# Altium schematic symbol library 1.3   - 电源类芯片.SchLib: 70 symbols
Pins are listed as number, name and electrical type; pins without a type are passive.

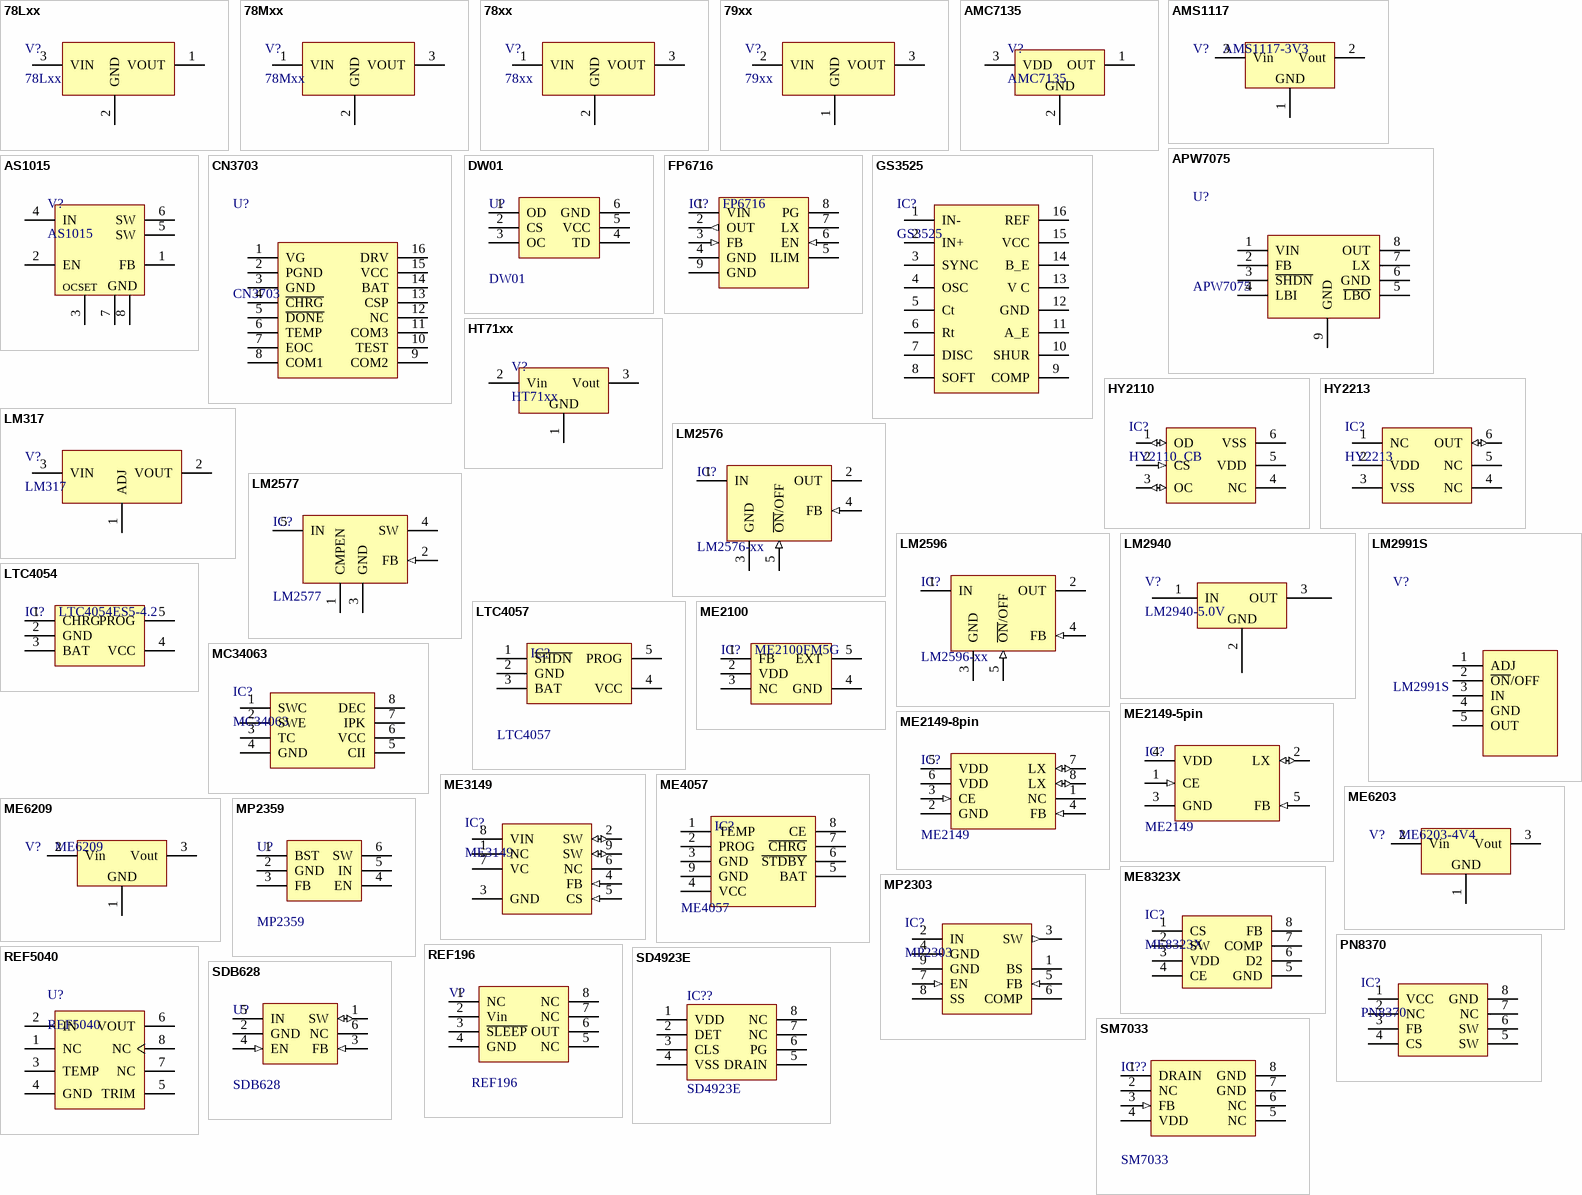
[diagram p0: symbols 78Lxx to SM7033]

## 78Lxx
designator V?
线性稳压芯片; BOM名称: 线性稳压芯片
footprint SOT89_N (4.6x4.3x1.6mm(长宽高))
footprint SOT89_L (4.6x4.3x1.6mm(长宽高))
footprint SOT89_M (4.6x4.3x1.6mm(长宽高))
pins: 1 VOUT, 2 GND, 3 VIN

## 78Mxx
designator V?
线性稳压芯片; BOM名称: 线性稳压芯片
footprint TO252 (252晶体管)
pins: 1 VIN, 2 GND, 3 VOUT

## 78xx
designator V?
线性稳压芯片; BOM名称: 线性稳压芯片
footprint TO220A (220，3脚晶体管)
footprint TO220B (220，3脚晶体管)
footprint TO220C (220，3脚晶体管)
pins: 1 VIN, 2 GND, 3 VOUT

## 79xx
designator V?
线性稳压芯片; BOM名称: 线性稳压芯片
footprint TO252 (252晶体管)
footprint TO220A (220，3脚晶体管)
footprint TO220B (220，3脚晶体管)
footprint TO220C (220，3脚晶体管)
pins: 1 GND, 2 VIN, 3 VOUT

## AMC7135
designator V?
大功率LED恒流芯片; BOM名称: 大功率LED恒流芯片
footprint SOT89_L (4.6x4.3x1.6mm(长宽高))
footprint SOT89_N (4.6x4.3x1.6mm(长宽高))
footprint SOT89_M (4.6x4.3x1.6mm(长宽高))
footprint TO252 (252晶体管)
pins: 1 OUT, 2 GND, 3 VDD

## AMS1117
designator V?, comment AMS1117-3V3
三端稳压芯片; BOM名称: 稳压芯片
footprint SOT223_L (6.4x7x1.6mm(长宽高))
footprint SOT223_M (6.4x7x1.6mm(长宽高))
footprint SOT223_N (6.4x7x1.6mm(长宽高))
footprint SOT89_L (4.6x4.3x1.6mm(长宽高))
footprint SOT89_N (4.6x4.3x1.6mm(长宽高))
footprint SOT89_M (4.6x4.3x1.6mm(长宽高))
pins: 1 GND, 2 Vout, 3 Vin

## APW7075
designator U?
电压转换器; BOM名称: 电压转换器
footprint ESOP8_L (5*6*1.8mm（长宽高）)
footprint ESOP8_N (5*6*1.8mm（长宽高）)
footprint ESOP8_M (5*6*1.8mm（长宽高）)
pins: 1 VIN, 2 FB, 3 ~{SHDN}, 4 LBI, 5 ~{LBO}, 6 GND, 7 LX, 8 OUT, 9 GND

## AS1015
designator V?
可调升压芯片; BOM名称: 可调升压芯片
footprint SOP8_N (5*6*1.8mm（长宽高）)
footprint SOP8_L (5*6*1.8mm（长宽高）)
footprint SOP8_M (5*6*1.8mm（长宽高）)
pins: 1 FB (power), 2 EN (power), 3 OCSET (power), 4 IN (power), 5 SW (power), 6 SW (power), 7 GND (power), 8 GND (power)

## CN3703
designator U?
三节锂电池充电芯片; BOM名称: 三节锂电池充电芯片
footprint TSSOP16_N (5*6.4*1mm（长宽高）)
footprint TSSOP16_L (5*6.4*1mm（长宽高）)
footprint TSSOP16_M (5*6.4*1mm（长宽高）)
pins: 1 VG, 2 PGND, 3 GND, 4 ~{CHRG}, 5 ~{DONE}, 6 TEMP, 7 EOC, 8 COM1, 9 COM2, 10 TEST, 11 COM3, 12 NC, 13 CSP, 14 BAT, 15 VCC, 16 DRV

## DW01
designator U?
锂电池过流保护IC; BOM名称: 过流保护IC
footprint SOT23-6L (3x1.6x1.1mm(长宽高))
footprint SOT23-6N (3x1.6x1.1mm(长宽高))
footprint SOT23-6M (3x1.6x1.1mm(长宽高))
pins: 1 OD, 2 CS, 3 OC, 4 TD, 5 VCC, 6 GND

## FP6716
designator IC?
可调升压芯片; 描述: IN:2.5~25V/8A,550MHz; BOM名称: 可调升压芯片
footprint ESOP8_N (5*6*1.8mm（长宽高）)
footprint ESOP8_L (5*6*1.8mm（长宽高）)
footprint ESOP8_M (5*6*1.8mm（长宽高）)
pins: 1 VIN (power), 2 OUT (out), 3 FB (in), 4 GND (power), 5 ILIM, 6 EN (in), 7 LX, 8 PG, 9 GND (power)

## GS3525
designator IC?
开关电源管理IC; BOM名称: 电源管理IC
footprint DIP16-300 (19.3*7.6*3.8(长宽高）)
footprint SOP16_L (10.3*6.2*1.8mm（长宽高）)
footprint SOP16_N (10.3*6.2*1.8mm（长宽高）)
footprint SOP16_M (10.3*6.2*1.8mm（长宽高）)
pins: 1 IN-, 2 IN+, 3 SYNC, 4 OSC, 5 Ct, 6 Rt, 7 DISC, 8 SOFT, 9 COMP, 10 SHUR, 11 A_E, 12 GND, 13 V C, 14 B_E, 15 VCC, 16 REF

## HT71xx
designator V?
LDO线性稳压芯片; BOM名称: LDO线性稳压芯片
footprint SOT89_L (4.6x4.3x1.6mm(长宽高))
footprint SOT89_N (4.6x4.3x1.6mm(长宽高))
footprint SOT89_M (4.6x4.3x1.6mm(长宽高))
footprint TO92A (92晶体管)
footprint TO92B (92晶体管)
pins: 1 GND, 2 Vin, 3 Vout

## HY2110
designator IC?, comment HY2110_CB
锂电池保护 IC; BOM名称: 锂电池保护 IC; 描述: 锂电池保护 IC
footprint SOT23-6N (3x1.6x1.1mm(长宽高))
footprint SOT23-6L (3x1.6x1.1mm(长宽高))
footprint SOT23-6M (3x1.6x1.1mm(长宽高))
pins: 1 OD (io), 2 CS (in), 3 OC (io), 4 NC, 5 VDD (power), 6 VSS (power)

## HY2213
designator IC?
电池充电平衡 IC; BOM名称: 电池充电平衡 IC; 描述: 电池充电平衡 IC
footprint SOT23-6N (3x1.6x1.1mm(长宽高))
footprint SOT23-6L (3x1.6x1.1mm(长宽高))
footprint SOT23-6M (3x1.6x1.1mm(长宽高))
pins: 1 NC, 2 VDD (power), 3 VSS (power), 4 NC, 5 NC, 6 OUT (io)

## LM317
designator V?
可调线性稳压芯片; BOM名称: 可调线性稳压芯片
footprint TO252 (252晶体管)
footprint TO220A (220，3脚晶体管)
footprint TO220B (220，3脚晶体管)
footprint TO220C (220，3脚晶体管)
pins: 1 ADJ, 2 VOUT, 3 VIN

## LM2576
designator IC?, comment LM2576-xx
DC降压芯片; BOM名称: DC降压芯片
footprint TO220-5A (220，5脚晶体管)
footprint TO220-5B (220，5脚晶体管)
footprint TO220-5C (220，5脚晶体管)
footprint TO263-5A (263，5脚晶体管)
footprint TO263-5B (263，5脚晶体管)
footprint TO220-5D (220，5脚晶体管)
pins: 1 IN (power), 2 OUT (power), 3 GND (power), 4 FB (in), 5 ~{ON}/OFF (in)

## LM2577
designator IC?
DC升压芯片; BOM名称: DC升压芯片
footprint TO220-5A (220，5脚晶体管)
footprint TO220-5B (220，5脚晶体管)
footprint TO220-5C (220，5脚晶体管)
footprint TO263-5A (263，5脚晶体管)
footprint TO263-5B (263，5脚晶体管)
footprint TO220-5D (220，5脚晶体管)
pins: 1 CMPEN, 2 FB (in), 3 GND (power), 4 SW (power), 5 IN (power)

## LM2596
designator IC?, comment LM2596-xx
DC降压芯片; BOM名称: DC稳压芯片
footprint TO220-5A (220，5脚晶体管)
footprint TO220-5B (220，5脚晶体管)
footprint TO220-5C (220，5脚晶体管)
footprint TO263-5A (263，5脚晶体管)
footprint TO263-5B (263，5脚晶体管)
footprint TO220-5D (220，5脚晶体管)
pins: 1 IN (power), 2 OUT (power), 3 GND (power), 4 FB (in), 5 ~{ON}/OFF (in)

## LM2940
designator V?, comment LM2940-5.0V
5V稳压芯片; BOM名称: 5V稳压芯片
footprint TO220A (220，3脚晶体管)
footprint TO220B (220，3脚晶体管)
pins: 1 IN (power), 2 GND (power), 3 OUT (power)

## LM2991S
designator V?
可调稳压芯片; BOM名称: 可调稳压芯片
footprint TO220-5A (220，5脚晶体管)
footprint TO220-5B (220，5脚晶体管)
footprint TO220-5C (220，5脚晶体管)
footprint TO263-5A (263，5脚晶体管)
footprint TO263-5B (263，5脚晶体管)
footprint TO220-5D (220，5脚晶体管)
pins: 1 ADJ, 2 ~{ON}/OFF, 3 IN, 4 GND, 5 OUT

## LTC4054
designator IC?, comment LTC4054ES5-4.2
锂电池充电芯片; BOM名称: 锂电池充电芯片
footprint SOT23-5N (3x1.6x1.1mm(长宽高))
footprint SOT23-5L (3x1.6x1.1mm(长宽高))
footprint SOT23-5M (3x1.6x1.1mm(长宽高))
pins: 1 CHRG, 2 GND, 3 BAT, 4 VCC, 5 PROG

## LTC4057
designator IC?
锂电池充电管理IC; BOM名称: 充电管理IC
footprint SOT23-5N (3x1.6x1.1mm(长宽高))
footprint SOT23-5L (3x1.6x1.1mm(长宽高))
footprint SOT23-5M (3x1.6x1.1mm(长宽高))
pins: 1 ~{SHDN}, 2 GND, 3 BAT, 4 VCC, 5 PROG

## MC34063
designator IC?
DC升降压芯片; BOM名称: DC升降压芯片
footprint SOP8_L (5*6*1.8mm（长宽高）)
footprint SOP8_N (5*6*1.8mm（长宽高）)
footprint SOP8_M (5*6*1.8mm（长宽高）)
footprint DIP8-300 (9.4*7.6*3.8(长宽高）)
pins: 1 SWC, 2 SWE, 3 TC, 4 GND, 5 CII, 6 VCC, 7 IPK, 8 DEC

## ME2100
designator IC?, comment ME2100FM5G
可调升压芯片; BOM名称: 可调升压芯片
footprint SOT23-5N (3x1.6x1.1mm(长宽高))
footprint SOT23-5L (3x1.6x1.1mm(长宽高))
footprint SOT23-5M (3x1.6x1.1mm(长宽高))
pins: 1 FB, 2 VDD, 3 NC, 4 GND, 5 EXT

## ME2149-5pin
designator IC?, comment ME2149
DC升压芯片; BOM名称: DC升压芯片
footprint SOT23-5N (3x1.6x1.1mm(长宽高))
footprint SOT23-5L (3x1.6x1.1mm(长宽高))
footprint SOT23-5M (3x1.6x1.1mm(长宽高))
pins: 1 CE (in), 2 LX (io), 3 GND (power), 4 VDD (power), 5 FB (in)

## ME2149-8pin
designator IC?, comment ME2149
DC升压芯片; BOM名称: DC升压芯片
footprint SOP8_N (5*6*1.8mm（长宽高）)
footprint SOP8_L (4*5*1.8mm（长宽高）)
footprint SOP8_M (5*6*1.8mm（长宽高）)
pins: 1 NC, 2 GND (power), 3 CE (in), 4 FB (in), 5 VDD (power), 6 VDD (power), 7 LX (io), 8 LX (io)

## ME3149
designator IC?
IN:36V,OUT:0.8-33/3A,150MHz; BOM名称: DC降压芯片; 描述: IN:28V,OUT:0.8-25/3A,360MHz
footprint ESOP8_N (5*6*1.8mm（长宽高）)
footprint ESOP8_M (5*6*1.8mm（长宽高）)
footprint ESOP8_L (5*6*1.8mm（长宽高）)
pins: 1 NC, 2 SW (io), 3 GND (power), 4 FB (in), 5 CS (in), 6 NC, 7 VC (power), 8 VIN, 9 SW (io)

## ME4057
designator IC?
锂电池充电管理IC; BOM名称: 充电管理IC
footprint ESOP8_N (5*6*1.8mm（长宽高）)
footprint ESOP8_L (5*6*1.8mm（长宽高）)
footprint ESOP8_M (5*6*1.8mm（长宽高）)
pins: 1 TEMP, 2 PROG, 3 GND (power), 4 VCC (power), 5 BAT, 6 ~{STDBY}, 7 ~{CHRG}, 8 CE, 9 GND (power)

## ME6203
designator V?, comment ME6203-4V4
低功耗LDO; BOM名称: 低功耗LDO
footprint SOT89_L (4.6x4.3x1.6mm(长宽高))
footprint SOT89_N (4.6x4.3x1.6mm(长宽高))
footprint SOT89_M (4.6x4.3x1.6mm(长宽高))
pins: 1 GND, 2 Vin, 3 Vout

## ME6209
designator V?
低功耗LDO; BOM名称: 低功耗LDO
footprint SOT89_L (4.6x4.3x1.6mm(长宽高))
footprint SOT89_N (4.6x4.3x1.6mm(长宽高))
footprint SOT89_M (4.6x4.3x1.6mm(长宽高))
pins: 1 GND, 2 Vin, 3 Vout

## ME8323X
designator IC?
电源管理IC; BOM名称: 电源管理IC
footprint SOP8_N (5*6*1.8mm（长宽高）)
footprint SOP8_M (5*6*1.8mm（长宽高）)
footprint SOP8_L (5*6*1.8mm（长宽高）)
pins: 1 CS, 2 SW, 3 VDD, 4 CE, 5 GND, 6 D2, 7 COMP, 8 FB

## MP2303
designator IC?
IN:28V,OUT:0.8-25/3A,360MHz; BOM名称: DC降压芯片; 描述: IN:28V,OUT:0.8-25/3A,360MHz
footprint ESOP8_N (5*6*1.8mm（长宽高）)
footprint ESOP8_M (5*6*1.8mm（长宽高）)
footprint ESOP8_L (5*6*1.8mm（长宽高）)
pins: 1 BS, 2 IN (power), 3 SW (out), 4 GND (power), 5 FB (in), 6 COMP, 7 EN (in), 8 SS, 9 GND (power)

## MP2359
designator U?
DC降压芯片; BOM名称: DC降压芯片
footprint SOT23-6L (3x1.6x1.1mm(长宽高))
footprint SOT23-6N (3x1.6x1.1mm(长宽高))
footprint SOT23-6M (3x1.6x1.1mm(长宽高))
pins: 1 BST, 2 GND, 3 FB, 4 EN, 5 IN, 6 SW

## PN8370
designator IC?
电源管理IC; BOM名称: 电源管理IC
footprint SOP8_N (5*6*1.8mm（长宽高）)
footprint SOP8_M (5*6*1.8mm（长宽高）)
footprint SOP8_L (5*6*1.8mm（长宽高）)
pins: 1 VCC, 2 NC, 3 FB, 4 CS, 5 SW, 6 SW, 7 NC, 8 GND

## REF196
designator V?
3V3基准电压源; BOM名称: 3V3基准电压
footprint SOP8_L (5*6*1.8mm（长宽高）)
footprint SOP8_N (5*6*1.8mm（长宽高）)
footprint SOP8_M (5*6*1.8mm（长宽高）)
pins: 1 NC, 2 Vin, 3 ~{SLEEP}, 4 GND, 5 NC, 6 OUT, 7 NC, 8 NC

## REF5040
designator U?
高精度电压基准; BOM名称: 高精度电压基准
footprint SOP8_L (5*6*1.8mm（长宽高）)
footprint SOP8_M (5*6*1.8mm（长宽高）)
footprint SOP8_N (5*6*1.8mm（长宽高）)
footprint DIP8-300 (9.4*7.6*3.8(长宽高）)
footprint DIP8-300_MH (带底座 9.4*7.6*3.8(长宽高）)
pins: 1 NC, 2 IN, 3 TEMP, 4 GND, 5 TRIM, 6 VOUT, 7 NC, 8 NC

## SD4923E
designator IC??
以太网受电设备控制器; BOM名称: 以太网受电设备控制器
footprint SOP8_L (5*6*1.8mm（长宽高）)
footprint SOP8_N (5*6*1.8mm（长宽高）)
footprint SOP8_M (5*6*1.8mm（长宽高）)
pins: 1 VDD, 2 DET, 3 CLS, 4 VSS, 5 DRAIN, 6 PG, 7 NC, 8 NC (power)

## SDB628
designator U?
DC升压芯片; 描述: IN:2-24V  OUT:28V  4A; BOM名称: DC升压芯片
footprint SOT23-6L (3x1.6x1.1mm(长宽高))
footprint SOT23-6N (3x1.6x1.1mm(长宽高))
footprint SOT23-6M (3x1.6x1.1mm(长宽高))
pins: 1 SW (io), 2 GND (power), 3 FB (in), 4 EN (in), 5 IN (power), 6 NC

## SM7033
designator IC??
非隔离AD-DC; BOM名称: 非隔离AD-DC
footprint SOP8_L (5*6*1.8mm（长宽高）)
footprint SOP8_N (5*6*1.8mm（长宽高）)
footprint SOP8_M (5*6*1.8mm（长宽高）)
pins: 1 DRAIN, 2 NC, 3 FB (in), 4 VDD (power), 5 NC, 6 NC, 7 GND (power), 8 GND (power)

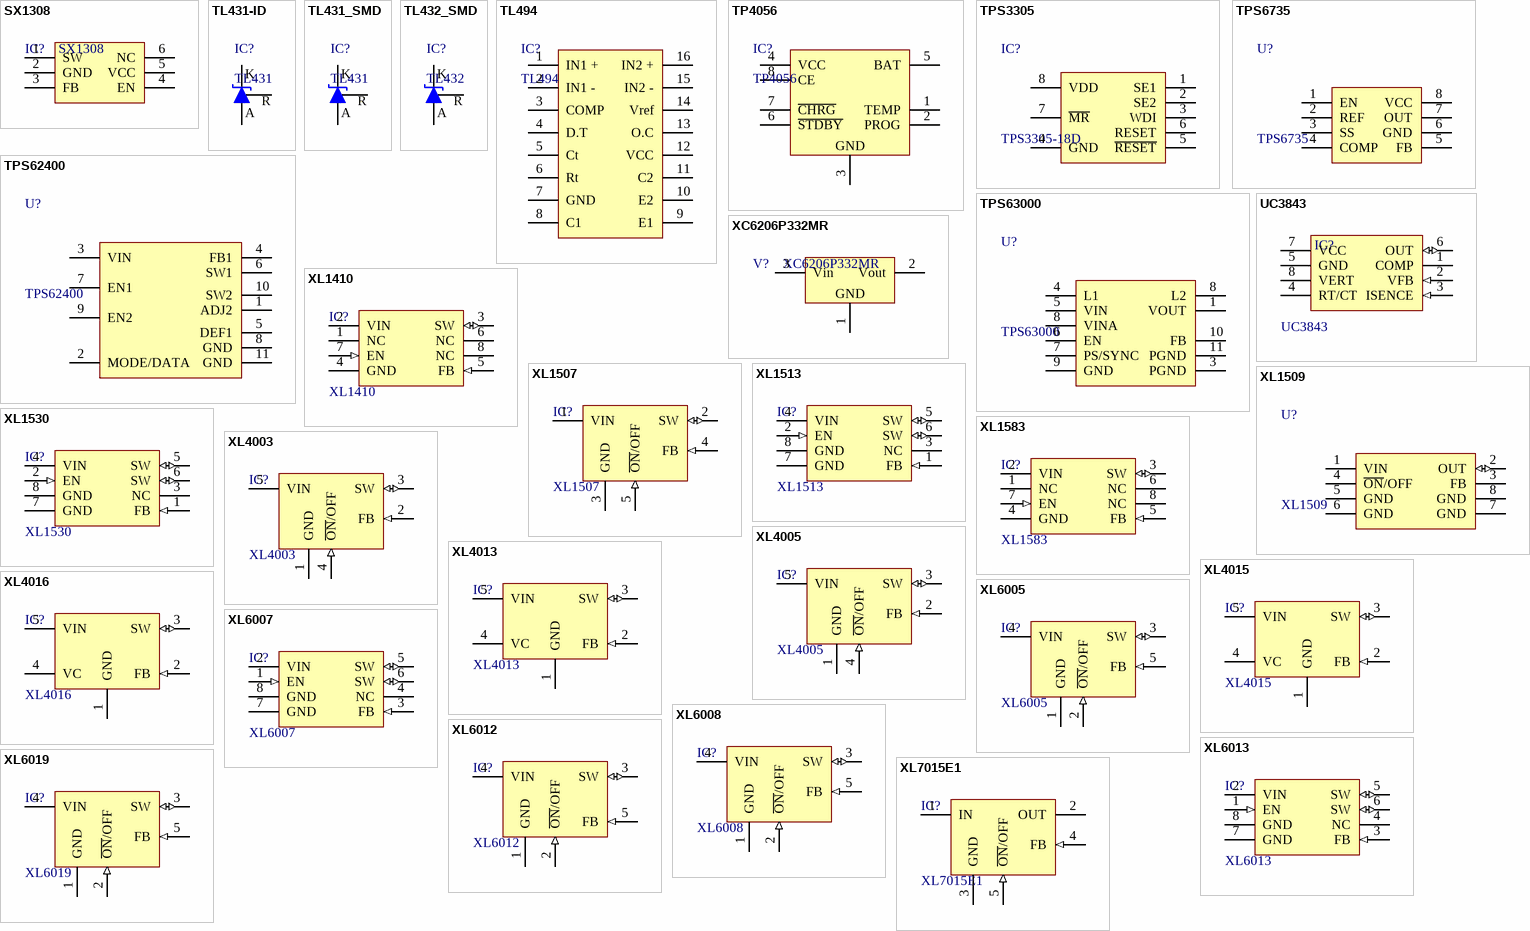
[diagram p1: symbols SX1308 to XL7015E1]

## SX1308
designator IC?
可调升压芯片; BOM名称: 可调升压芯片
footprint SOT23-6N (3x1.6x1.1mm(长宽高))
footprint SOT23-6L (3x1.6x1.1mm(长宽高))
footprint SOT23-6M (3x1.6x1.1mm(长宽高))
pins: 1 SW, 2 GND, 3 FB, 4 EN, 5 VCC, 6 NC

## TL431-ID
designator IC?, comment TL431
可调基准稳压芯片; BOM名称: 可调基准稳压芯片
footprint TO92A (92晶体管)
footprint TO92B (92晶体管)
pins: 1 R, 2 A, 3 K

## TL431_SMD
designator IC?, comment TL431
可调基准稳压芯片; BOM名称: 可调基准稳压芯片
footprint SOT23-3N (3x1.3x1mm(长宽高))
footprint SOT23-3L (3x1.3x1mm(长宽高))
footprint SOT23-3M (3x1.3x1mm(长宽高))
pins: 1 K, 2 R, 3 A

## TL432_SMD
designator IC?, comment TL432
可调基准稳压芯片; BOM名称: 可调基准稳压芯片
footprint SOT23-3N (3x1.3x1mm(长宽高))
footprint SOT23-3L (3x1.3x1mm(长宽高))
footprint SOT23-3M (3x1.3x1mm(长宽高))
pins: 1 R, 2 K, 3 A

## TL494
designator IC?
电源管理IC; BOM名称: 电源管理IC
footprint DIP16-300 (19.3*7.6*3.8(长宽高）)
footprint SOP16_L (10.3*6.2*1.8mm（长宽高）)
footprint SOP16_N (10.3*6.2*1.8mm（长宽高）)
footprint SOP16_M (10.3*6.2*1.8mm（长宽高）)
pins: 1 IN1 +, 2 IN1 -, 3 COMP, 4 D.T, 5 Ct, 6 Rt, 7 GND, 8 C1, 9 E1, 10 E2, 11 C2, 12 VCC, 13 O.C, 14 Vref, 15 IN2 -, 16 IN2 +

## TP4056
designator IC?
锂电池充电管理; BOM名称: 锂电池充电管理
footprint SOP8_N (5*6*1.8mm（长宽高）)
footprint SOP8_L (5*6*1.8mm（长宽高）)
footprint SOP8_M (5*6*1.8mm（长宽高）)
pins: 1 TEMP, 2 PROG, 3 GND, 4 VCC, 5 BAT, 6 ~{STDBY}, 7 ~{CHRG}, 8 CE

## TPS3305
designator IC?, comment TPS3305-18D
DSP电源管理; BOM名称: DSP电源管理
footprint SSOP8_N (3*6.4*1.2mm（长宽高）)
footprint SSOP8_L (3*6.4*1.2mm（长宽高）)
footprint SSOP8_M (3*6.4*1.2mm（长宽高）)
pins: 1 SE1, 2 SE2, 3 WDI, 4 GND, 5 ~{RESET}, 6 RESET, 7 ~{MR}, 8 VDD

## TPS6735
designator U?
负电压转换芯片; BOM名称: 负电压芯片
footprint SOP8_N (5*6*1.8mm（长宽高）)
footprint SOP8_L (5*6*1.8mm（长宽高）)
footprint SOP8_M (5*6*1.8mm（长宽高）)
pins: 1 EN, 2 REF, 3 SS, 4 COMP, 5 FB, 6 GND, 7 OUT, 8 VCC

## TPS62400
designator U?
电压转换器; BOM名称: 电压转换器
footprint QFN10 3X3_N (10脚，长x宽x高：3x3x0.6mm，脚距：0.5mm)
footprint QFN10 3X3_L (10脚，长x宽x高：3x3x0.6mm，脚距：0.5mm)
footprint QFN10 3X3_M (10脚，长x宽x高：3x3x0.6mm，脚距：0.5mm)
pins: 1 ADJ2, 2 MODE/DATA, 3 VIN, 4 FB1, 5 DEF1, 6 SW1, 7 EN1, 8 GND, 9 EN2, 10 SW2, 11 GND

## TPS63000
designator U?
电压转换器; BOM名称: 电压转换器
footprint QFN10 3X3_N (10脚，长x宽x高：3x3x0.6mm，脚距：0.5mm)
footprint QFN10 3X3_L (10脚，长x宽x高：3x3x0.6mm，脚距：0.5mm)
footprint QFN10 3X3_M (10脚，长x宽x高：3x3x0.6mm，脚距：0.5mm)
pins: 1 VOUT, 3 PGND, 4 L1, 5 VIN, 6 EN, 7 PS/SYNC, 8 VINA, 8 L2, 9 GND, 10 FB, 11 PGND

## UC3843
designator IC?
电源控制芯片; 描述: 大电流PWM输出电源芯片; BOM名称: 电源控制芯片
footprint ESOP8_N (5*6*1.8mm（长宽高）)
footprint ESOP8_L (5*6*1.8mm（长宽高）)
footprint ESOP8_M (5*6*1.8mm（长宽高）)
pins: 1 COMP, 2 VFB (in), 3 ISENCE (in), 4 RT/CT, 5 GND (power), 6 OUT (io), 7 VCC (power), 8 VERT

## XC6206P332MR
designator V?
低压差线性稳压芯片; BOM名称: 低压差线性稳压芯片
footprint SOT23-3N (3x1.3x1mm(长宽高))
footprint SOT23-3M (3x1.3x1mm(长宽高))
footprint SOT23-3L (3x1.3x1mm(长宽高))
pins: 1 GND, 2 Vout, 3 Vin

## XL1410
designator IC?
DC降压芯片; BOM名称: DC降压芯片
footprint SOP8_N (5*6*1.8mm（长宽高）)
footprint SOP8_L (4*5*1.8mm（长宽高）)
footprint SOP8_M (5*6*1.8mm（长宽高）)
pins: 1 NC, 2 VIN (power), 3 SW (io), 4 GND (power), 5 FB (in), 6 NC, 7 EN (in), 8 NC

## XL1507
designator IC?
DC降压芯片; BOM名称: DC降压芯片
footprint TO252-5
pins: 1 VIN (power), 2 SW (io), 3 GND (power), 4 FB (in), 5 ~{ON}/OFF (in)

## XL1509
designator U?
DC降电压芯片; 描述: 降压，40V/2A/150KHz; 参数: IN:40,OUT:1.25-37/2A,150KHz; BOM名称: DC降电压芯片
footprint SOP8_N (5*6*1.8mm（长宽高）)
footprint SOP8_L (5*6*1.8mm（长宽高）)
footprint SOP8_M (5*6*1.8mm（长宽高）)
pins: 1 VIN (power), 2 OUT (io), 3 FB, 4 ~{ON}/OFF, 5 GND (power), 6 GND (power), 7 GND (power), 8 GND (power)

## XL1513
designator IC?
DC降压芯片; BOM名称: DC降压芯片
footprint SOP8_N (5*6*1.8mm（长宽高）)
footprint SOP8_L (4*5*1.8mm（长宽高）)
footprint SOP8_M (5*6*1.8mm（长宽高）)
pins: 1 FB (in), 2 EN (in), 3 NC, 4 VIN (power), 5 SW (io), 6 SW (io), 7 GND (power), 8 GND (power)

## XL1530
designator IC?
DC降压芯片; BOM名称: DC降压芯片
footprint SOP8_N (5*6*1.8mm（长宽高）)
footprint SOP8_L (4*5*1.8mm（长宽高）)
footprint SOP8_M (5*6*1.8mm（长宽高）)
pins: 1 FB (in), 2 EN (in), 3 NC, 4 VIN (power), 5 SW (io), 6 SW (io), 7 GND (power), 8 GND (power)

## XL1583
designator IC?
DC降压芯片; BOM名称: DC降压芯片
footprint SOP8_N (5*6*1.8mm（长宽高）)
footprint SOP8_L (4*5*1.8mm（长宽高）)
footprint SOP8_M (5*6*1.8mm（长宽高）)
pins: 1 NC, 2 VIN (power), 3 SW (io), 4 GND (power), 5 FB (in), 6 NC, 7 EN (in), 8 NC

## XL4003
designator IC?
DC降压芯片; BOM名称: DC降压芯片
footprint TO252-5
pins: 1 GND (power), 2 FB (in), 3 SW (io), 4 ~{ON}/OFF (in), 5 VIN (power)

## XL4005
designator IC?
DC降压芯片; BOM名称: DC降压芯片
footprint TO263-5A (263，5脚晶体管)
footprint TO263-5B (263，5脚晶体管)
pins: 1 GND (power), 2 FB (in), 3 SW (io), 4 ~{ON}/OFF (in), 5 VIN (power)

## XL4013
designator IC?
DC降压芯片; BOM名称: DC降压芯片
footprint TO252-5
pins: 1 GND (power), 2 FB (in), 3 SW (io), 4 VC, 5 VIN (power)

## XL4015
designator IC?
DC降压芯片; BOM名称: DC降压芯片
footprint TO263-5A (263，5脚晶体管)
footprint TO263-5B (263，5脚晶体管)
pins: 1 GND (power), 2 FB (in), 3 SW (io), 4 VC, 5 VIN (power)

## XL4016
designator IC?
DC降压芯片; BOM名称: DC降压芯片
footprint TO220-5A (220，5脚晶体管)
footprint TO220-5B (220，5脚晶体管)
footprint TO220-5C (220，5脚晶体管)
footprint TO220-5D (220，5脚晶体管)
pins: 1 GND (power), 2 FB (in), 3 SW (io), 4 VC, 5 VIN (power)

## XL6005
designator IC?
LED恒流驱动; BOM名称: LED恒流驱动芯片
footprint TO252-5
pins: 1 GND (power), 2 ~{ON}/OFF (in), 3 SW (io), 4 VIN (power), 5 FB (in)

## XL6007
designator IC?
DC升压芯片; BOM名称: DC升压芯片
footprint SOP8_N (5*6*1.8mm（长宽高）)
footprint SOP8_L (4*5*1.8mm（长宽高）)
footprint SOP8_M (5*6*1.8mm（长宽高）)
pins: 1 EN (in), 2 VIN (power), 3 FB (in), 4 NC, 5 SW (io), 6 SW (io), 7 GND (power), 8 GND (power)

## XL6008
designator IC?
DC升压芯片; BOM名称: DC升压芯片
footprint TO252-5
pins: 1 GND (power), 2 ~{ON}/OFF (in), 3 SW (io), 4 VIN (power), 5 FB (in)

## XL6012
designator IC?
DC升压芯片; BOM名称: DC升压芯片
footprint TO220-5A (220，5脚晶体管)
footprint TO220-5B (220，5脚晶体管)
footprint TO220-5C (220，5脚晶体管)
footprint TO220-5D (220，5脚晶体管)
pins: 1 GND (power), 2 ~{ON}/OFF (in), 3 SW (io), 4 VIN (power), 5 FB (in)

## XL6013
designator IC?
DC升压芯片; BOM名称: DC升压芯片
footprint SOP8_N (5*6*1.8mm（长宽高）)
footprint SOP8_L (4*5*1.8mm（长宽高）)
footprint SOP8_M (5*6*1.8mm（长宽高）)
pins: 1 EN (in), 2 VIN (power), 3 FB (in), 4 NC, 5 SW (io), 6 SW (io), 7 GND (power), 8 GND (power)

## XL6019
designator IC?
DC升压芯片; BOM名称: DC升压芯片
footprint TO263-5A (263，5脚晶体管)
footprint TO263-5B (263，5脚晶体管)
pins: 1 GND (power), 2 ~{ON}/OFF (in), 3 SW (io), 4 VIN (power), 5 FB (in)

## XL7015E1
designator IC?
DC降压芯片; BOM名称: DC降压芯片
footprint TO252-5
pins: 1 IN (power), 2 OUT (power), 3 GND (power), 4 FB (in), 5 ~{ON}/OFF (in)